# EAGLE library part 691311500107 (library Wuerth_Elektronik_eiCan_Terminal_Blocks_v2.0)
WR-TBL Serie 311 - 5.08 mm Close Vertical PCB Header , 7 Pins
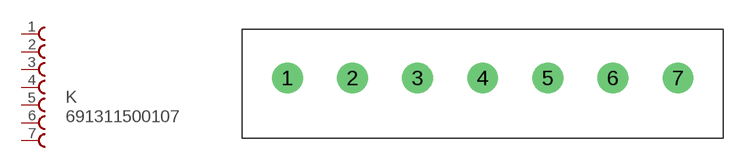
[diagram p73: symbol with the pads of 691311500107; footprint 691311500107]

Designator prefix K

## 691311500107  [691311500107]
1  1  pas
2  2  pas
3  3  pas
4  4  pas
5  5  pas
6  6  pas
7  7  pas

## Footprint 691311500107 (pad centres in mm)
WR-TBL Serie 311 - 5.08 mm Close Vertical PCB Header , 7 Pins
drill 1.6 round: 1 -30.48,0; 2 -25.4,0; 3 -20.32,0; 4 -15.24,0; 5 -10.16,0; 6 -5.08,0; 7 0,0